# Altium integrated library National Semiconductor Interface.IntLib: 1433 symbols (part 5 of 51)
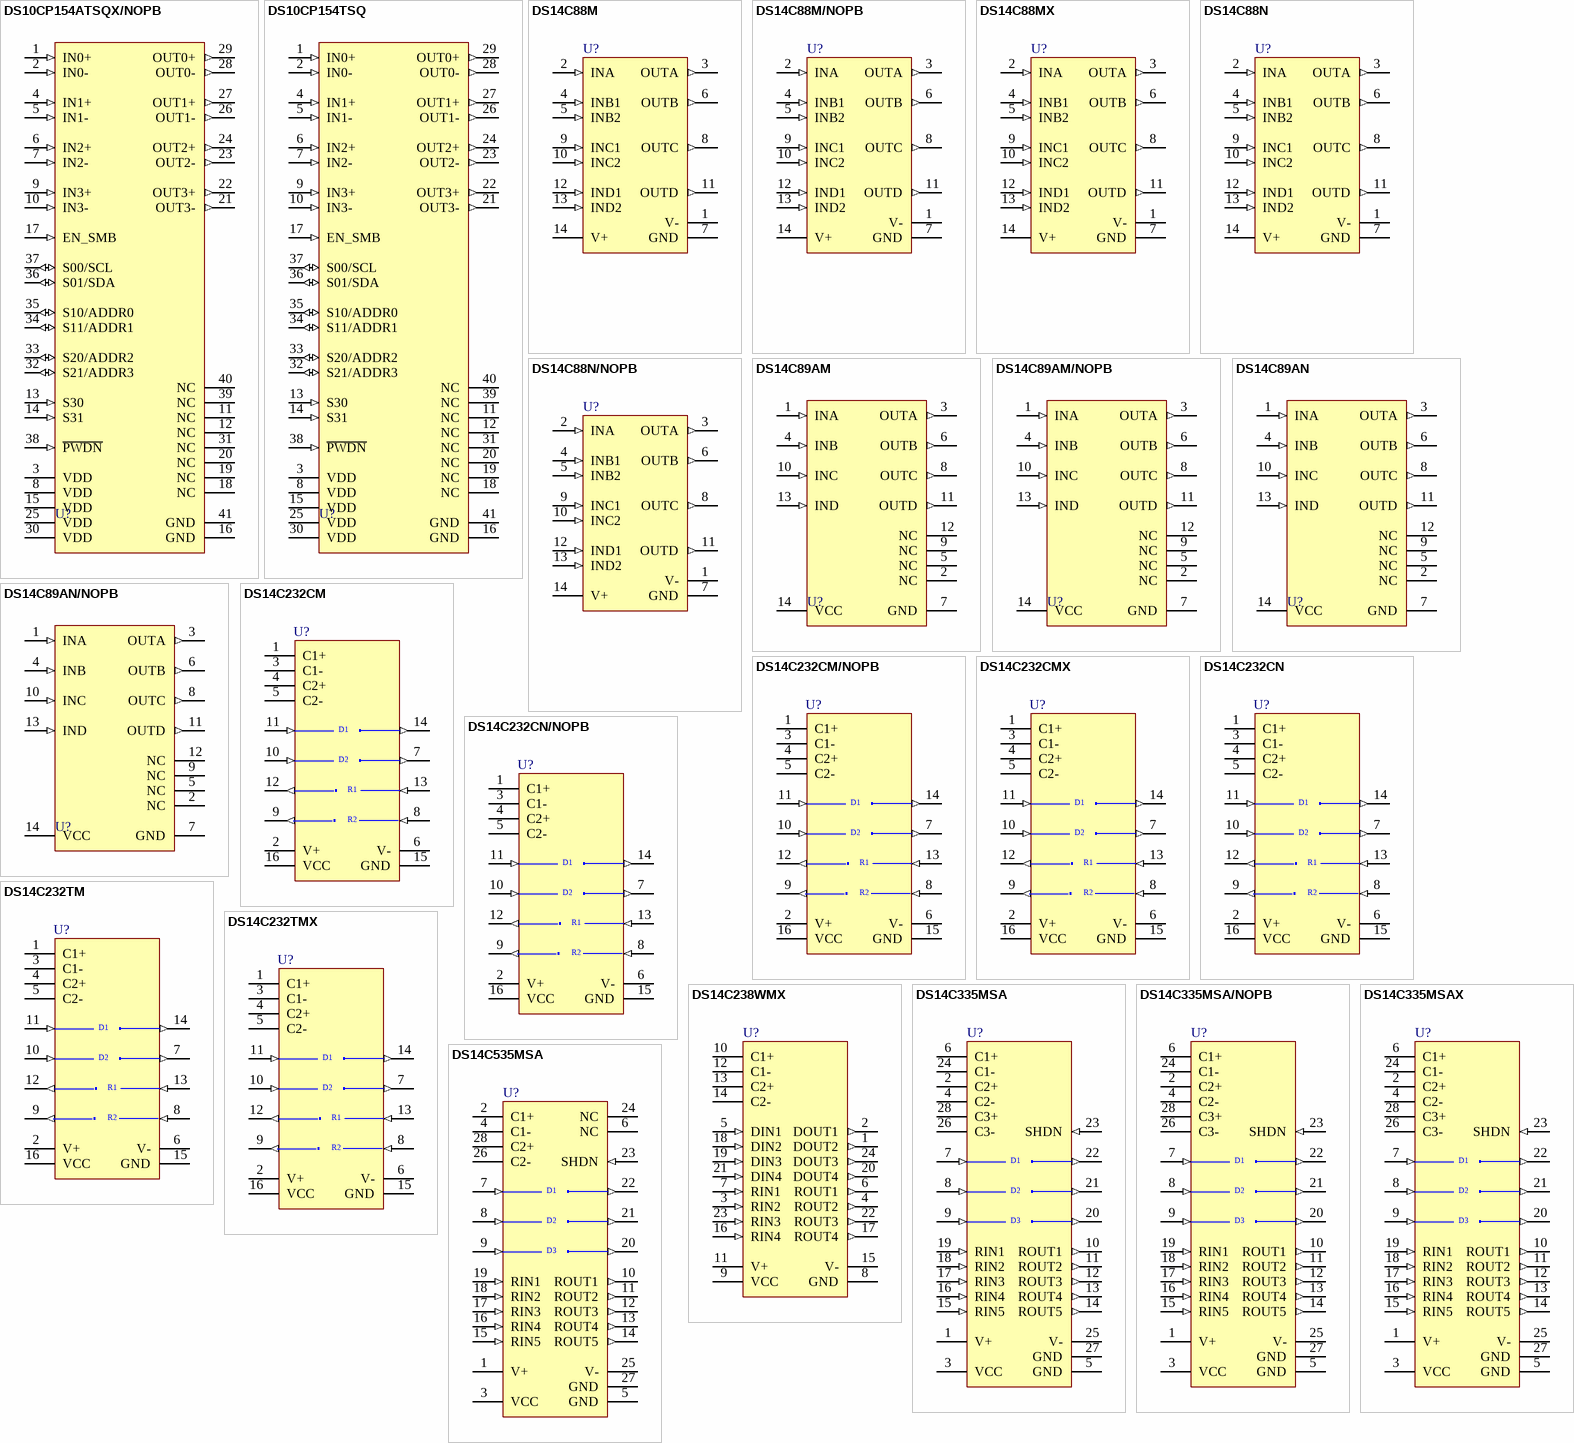
[diagram p128: symbols DS10CP154ATSQX/NOPB to DS14C535MSA]

## DS14C232CM/NOPB
designator U?
Low Power +5V Powered TIA/EIA-232 Dual Driver/Receiver, 16-pin Narrow SOIC, Pb-Free; PartNumber: DS14C232CM/NOPB; Manufacturer: National Semiconductor; PackageTopMarking: NSUZXYTTE#*DS14C232CM; PowerWise: N; CompType: Interface IC; High-Reliability: Y; DatasheetVersion: Oct-1999; PackageVersion: revJ, Aug-1995; PackageReference: M16A; PackageDescription: Molded Package, SO, .150in Wide, 16 Lead; RoHS: Y; PinCount: 16; Code_JEDEC: MS-012-AC; Code_IPC: SOIC127P600-16; ComponentLink1Description: Manufacturer URL; ComponentLink1URL: http://www.national.com/; ComponentLink2Description: DS14C232 Datasheet; ComponentLink2URL: http://www.national.com/ds/DS/DS14C232.pdf; ComponentLink3Description: DS14C232 Web Page; ComponentLink3URL: http://www.national.com/pf/DS/DS14C232.html; ComponentLink4Description: M16A Package Page; ComponentLink4URL: http://www.national.com/packaging/folders/m16a.html
footprint M16A_N (SOIC, 16-Leads, Body 9.9x3.9mm, Pitch 1.27mm, IPC Medium Density)
footprint M16A_L (SOIC, 16-Leads, Body 9.9x3.9mm, Pitch 1.27mm, IPC High Density)
footprint M16A_M (SOIC, 16-Leads, Body 9.9x3.9mm, Pitch 1.27mm, IPC Low Density)
pins: 1 C1+, 2 V+ (power), 3 C1-, 4 C2+, 5 C2-, 6 V- (power), 7 DOUT (out), 8 RIN (in), 9 ROUT (out), 10 DIN (in), 11 DIN (in), 12 ROUT (out), 13 RIN (in), 14 DOUT (out), 15 GND (power), 16 VCC (power)
text: D1; D2; R1; R2

## DS14C232CMX
designator U?
Low Power +5V Powered TIA/EIA-232 Dual Driver/Receiver, 16-pin Narrow SOIC; PartNumber: DS14C232CMX; Manufacturer: National Semiconductor; PackageTopMarking: NSUZXYTTE#*DS14C232CM; PowerWise: N; CompType: Interface IC; High-Reliability: Y; DatasheetVersion: Oct-1999; PackageVersion: revJ, Aug-1995; PackageReference: M16A; PackageDescription: Molded Package, SO, .150in Wide, 16 Lead; RoHS: N; PinCount: 16; Code_JEDEC: MS-012-AC; Code_IPC: SOIC127P600-16; ComponentLink1Description: Manufacturer URL; ComponentLink1URL: http://www.national.com/; ComponentLink2Description: DS14C232 Datasheet; ComponentLink2URL: http://www.national.com/ds/DS/DS14C232.pdf; ComponentLink3Description: DS14C232 Web Page; ComponentLink3URL: http://www.national.com/pf/DS/DS14C232.html; ComponentLink4Description: M16A Package Page; ComponentLink4URL: http://www.national.com/packaging/folders/m16a.html
footprint M16A_N (SOIC, 16-Leads, Body 9.9x3.9mm, Pitch 1.27mm, IPC Medium Density)
footprint M16A_L (SOIC, 16-Leads, Body 9.9x3.9mm, Pitch 1.27mm, IPC High Density)
footprint M16A_M (SOIC, 16-Leads, Body 9.9x3.9mm, Pitch 1.27mm, IPC Low Density)
pins: 1 C1+, 2 V+ (power), 3 C1-, 4 C2+, 5 C2-, 6 V- (power), 7 DOUT (out), 8 RIN (in), 9 ROUT (out), 10 DIN (in), 11 DIN (in), 12 ROUT (out), 13 RIN (in), 14 DOUT (out), 15 GND (power), 16 VCC (power)
text: D1; D2; R1; R2

## DS14C232CN
designator U?
Low-Power +5V Powered TIA/EIA-232 Dual Driver/Receiver, 16-pin MDIP; PartNumber: DS14C232CN; Manufacturer: National Semiconductor; PackageTopMarking: NSUZXYYTTE#*DS14C232CN; PowerWise: N; CompType: Interface IC; High-Reliability: Y; DatasheetVersion: Oct-1999; PackageVersion: revG, May-2006; PackageReference: N16E; PackageDescription: MDIP, .750 x .250 x .130in, 16 Lead, .100in Pitch; RoHS: N; PinCount: 16; Code_JEDEC: MS-001-BB; ComponentLink1Description: Manufacturer URL; ComponentLink1URL: http://www.national.com/; ComponentLink2Description: DS14C232 Datasheet; ComponentLink2URL: http://www.national.com/ds/DS/DS14C232.pdf; ComponentLink3Description: DS14C232 Web Page; ComponentLink3URL: http://www.national.com/pf/DS/DS14C232.html; ComponentLink4Description: N16E Package Page; ComponentLink4URL: http://www.national.com/packaging/folders/n16e.html
footprint N16E (DIP, 16-Leads, Row Spacing 7.62mm, Pitch 2.54mm, Body 19.3x6.35mm)
pins: 1 C1+, 2 V+ (power), 3 C1-, 4 C2+, 5 C2-, 6 V- (power), 7 DOUT (out), 8 RIN (in), 9 ROUT (out), 10 DIN (in), 11 DIN (in), 12 ROUT (out), 13 RIN (in), 14 DOUT (out), 15 GND (power), 16 VCC (power)
text: D1; D2; R1; R2

## DS14C232CN/NOPB
designator U?
Low Power +5V Powered TIA/EIA-232 Dual Driver/Receiver, 16-pin MDIP, Pb-Free; PartNumber: DS14C232CN/NOPB; Manufacturer: National Semiconductor; PackageTopMarking: NSUZXYYTTE#*DS14C232CN; PowerWise: N; CompType: Interface IC; High-Reliability: Y; DatasheetVersion: Oct-1999; PackageVersion: revG, May-2006; PackageReference: N16E; PackageDescription: MDIP, .750 x .250 x .130in, 16 Lead, .100in Pitch; RoHS: Y; PinCount: 16; Code_JEDEC: MS-001-BB; ComponentLink1Description: Manufacturer URL; ComponentLink1URL: http://www.national.com/; ComponentLink2Description: DS14C232 Datasheet; ComponentLink2URL: http://www.national.com/ds/DS/DS14C232.pdf; ComponentLink3Description: DS14C232 Web Page; ComponentLink3URL: http://www.national.com/pf/DS/DS14C232.html; ComponentLink4Description: N16E Package Page; ComponentLink4URL: http://www.national.com/packaging/folders/n16e.html
footprint N16E (DIP, 16-Leads, Row Spacing 7.62mm, Pitch 2.54mm, Body 19.3x6.35mm)
pins: 1 C1+, 2 V+ (power), 3 C1-, 4 C2+, 5 C2-, 6 V- (power), 7 DOUT (out), 8 RIN (in), 9 ROUT (out), 10 DIN (in), 11 DIN (in), 12 ROUT (out), 13 RIN (in), 14 DOUT (out), 15 GND (power), 16 VCC (power)
text: D1; D2; R1; R2

## DS14C232TM
designator U?
Low-Power +5V Powered TIA/EIA-232 Dual Driver/Receiver, 16-pin Narrow SOIC; PartNumber: DS14C232TM; Manufacturer: National Semiconductor; PackageTopMarking: NSUZXYTTE#*DS14C232TM; PowerWise: N; CompType: Interface IC; High-Reliability: Y; DatasheetVersion: Oct-1999; PackageVersion: revJ, Aug-1995; PackageReference: M16A; PackageDescription: Molded Package, SO, .150in Wide, 16 Lead; RoHS: N; PinCount: 16; Code_JEDEC: MS-012-AC; Code_IPC: SOIC127P600-16; ComponentLink1Description: Manufacturer URL; ComponentLink1URL: http://www.national.com/; ComponentLink2Description: DS14C232 Datasheet; ComponentLink2URL: http://www.national.com/ds/DS/DS14C232.pdf; ComponentLink3Description: DS14C232 Web Page; ComponentLink3URL: http://www.national.com/pf/DS/DS14C232.html; ComponentLink4Description: M16A Package Page; ComponentLink4URL: http://www.national.com/packaging/folders/m16a.html
footprint M16A_N (SOIC, 16-Leads, Body 9.9x3.9mm, Pitch 1.27mm, IPC Medium Density)
footprint M16A_L (SOIC, 16-Leads, Body 9.9x3.9mm, Pitch 1.27mm, IPC High Density)
footprint M16A_M (SOIC, 16-Leads, Body 9.9x3.9mm, Pitch 1.27mm, IPC Low Density)
pins: 1 C1+, 2 V+ (power), 3 C1-, 4 C2+, 5 C2-, 6 V- (power), 7 DOUT (out), 8 RIN (in), 9 ROUT (out), 10 DIN (in), 11 DIN (in), 12 ROUT (out), 13 RIN (in), 14 DOUT (out), 15 GND (power), 16 VCC (power)
text: D1; D2; R1; R2

## DS14C232TMX
designator U?
Low Power +5V Powered TIA/EIA-232 Dual Driver/Receiver, 16-pin Narrow SOIC; PartNumber: DS14C232TMX; Manufacturer: National Semiconductor; PackageTopMarking: NSUZXYTTE#*DS14C232TM; PowerWise: N; CompType: Interface IC; High-Reliability: Y; DatasheetVersion: Oct-1999; PackageVersion: revJ, Aug-1995; PackageReference: M16A; PackageDescription: Molded Package, SO, .150in Wide, 16 Lead; RoHS: N; PinCount: 16; Code_JEDEC: MS-012-AC; Code_IPC: SOIC127P600-16; ComponentLink1Description: Manufacturer URL; ComponentLink1URL: http://www.national.com/; ComponentLink2Description: DS14C232 Datasheet; ComponentLink2URL: http://www.national.com/ds/DS/DS14C232.pdf; ComponentLink3Description: DS14C232 Web Page; ComponentLink3URL: http://www.national.com/pf/DS/DS14C232.html; ComponentLink4Description: M16A Package Page; ComponentLink4URL: http://www.national.com/packaging/folders/m16a.html
footprint M16A_N (SOIC, 16-Leads, Body 9.9x3.9mm, Pitch 1.27mm, IPC Medium Density)
footprint M16A_L (SOIC, 16-Leads, Body 9.9x3.9mm, Pitch 1.27mm, IPC High Density)
footprint M16A_M (SOIC, 16-Leads, Body 9.9x3.9mm, Pitch 1.27mm, IPC Low Density)
pins: 1 C1+, 2 V+ (power), 3 C1-, 4 C2+, 5 C2-, 6 V- (power), 7 DOUT (out), 8 RIN (in), 9 ROUT (out), 10 DIN (in), 11 DIN (in), 12 ROUT (out), 13 RIN (in), 14 DOUT (out), 15 GND (power), 16 VCC (power)
text: D1; D2; R1; R2

## DS14C238WMX
designator U?
Single Supply TIA/EIA-232 4x4 Driver/Receiver, 24-pin Wide SOIC; PartNumber: DS14C238WMX; Manufacturer: National Semiconductor; PackageTopMarking: NSUZXYTT*DS14C238WM; PowerWise: N; CompType: Interface IC; High-Reliability: Y; DatasheetVersion: Jul-2002; PackageVersion: revF, Apr-1990; PackageReference: M24B; PackageDescription: Molded Package, S.O., .300in Wide, 24 Lead; RoHS: N; PinCount: 24; ComponentLink1Description: Manufacturer URL; ComponentLink1URL: http://www.national.com/; ComponentLink2Description: DS14C238 Datasheet; ComponentLink2URL: http://www.national.com/ds/DS/DS14C238.pdf; ComponentLink3Description: DS14C238 Web Page; ComponentLink3URL: http://www.national.com/pf/DS/DS14C238.html; ComponentLink4Description: M24B Package Page; ComponentLink4URL: http://www.national.com/packaging/folders/m24b.html
footprint M24B_N (SOIC, 24-Leads, Body 15.4x7.5mm, Pitch 1.27mm, IPC Medium Density)
footprint M24B_L (SOIC, 24-Leads, Body 15.4x7.5mm, Pitch 1.27mm, IPC High Density)
footprint M24B_M (SOIC, 24-Leads, Body 15.4x7.5mm, Pitch 1.27mm, IPC Low Density)
pins: 1 DOUT2 (out), 2 DOUT1 (out), 3 RIN2 (in), 4 ROUT2 (out), 5 DIN1 (in), 6 ROUT1 (out), 7 RIN1 (in), 8 GND (power), 9 VCC (power), 10 C1+, 11 V+ (power), 12 C1-, 13 C2+, 14 C2-, 15 V- (power), 16 RIN4 (in), 17 ROUT4 (out), 18 DIN2 (in), 19 DIN3 (in), 20 DOUT4 (out), 21 DIN4 (in), 22 ROUT3 (out), 23 RIN3 (in), 24 DOUT3 (out)

## DS14C335MSA
designator U?
+3.3V Supply TIA/EIA-232 3x5 Driver/Receiver, 28-pin SSOP-EIAJ; PartNumber: DS14C335MSA; Manufacturer: National Semiconductor; PackageTopMarking: NSUZXYTTE#*DS14C335*MSA; PowerWise: N; CompType: Interface IC; High-Reliability: Y; DatasheetVersion: Mar-2000; PackageVersion: revC, Oct-2009; PackageReference: MSA28; PackageDescription: Molded SSOP, 5.3mm Body Width, 0.65mm Pitch, EIAJ, Type II, 28 Lead; RoHS: N; PinCount: 28; ComponentLink1Description: Manufacturer URL; ComponentLink1URL: http://www.national.com/; ComponentLink2Description: DS14C335 Datasheet; ComponentLink2URL: http://www.national.com/ds/DS/DS14C335.pdf; ComponentLink3Description: DS14C335 Web Page; ComponentLink3URL: http://www.national.com/pf/DS/DS14C335.html; ComponentLink4Description: MSA28 Package Page; ComponentLink4URL: http://www.national.com/packaging/folders/msa28.html
footprint MSA28_N (SOP, 28-Leads, Body 10.2x5.3mm, Pitch 0.65mm, IPC Medium Density)
footprint MSA28_L (SOP, 28-Leads, Body 10.2x5.3mm, Pitch 0.65mm, IPC High Density)
footprint MSA28_M (SOP, 28-Leads, Body 10.2x5.3mm, Pitch 0.65mm, IPC Low Density)
pins: 1 V+ (power), 2 C2+, 3 VCC (power), 4 C2-, 5 GND (power), 6 C1+, 7 DIN (in), 8 DIN (in), 9 DIN (in), 10 ROUT1 (out), 11 ROUT2 (out), 12 ROUT3 (out), 13 ROUT4 (out), 14 ROUT5 (out), 15 RIN5 (in), 16 RIN4 (in), 17 RIN3 (in), 18 RIN2 (in), 19 RIN1 (in), 20 DOUT (out), 21 DOUT (out), 22 DOUT (out), 23 SHDN (in), 24 C1-, 25 V- (power), 26 C3-, 27 GND (power), 28 C3+
text: D1; D2; D3

## DS14C335MSA/NOPB
designator U?
+3.3V Supply TIA/EIA - 232 3X5 Driver/Receiver, 28-pin SSOP-EIAJ, Pb-Free; PartNumber: DS14C335MSA/NOPB; Manufacturer: National Semiconductor; PackageTopMarking: NSUZXYTTE#*DS14C335*MSA; PowerWise: N; CompType: Interface IC; High-Reliability: Y; DatasheetVersion: Mar-2000; PackageVersion: revC, Oct-2009; PackageReference: MSA28; PackageDescription: Molded SSOP, 5.3mm Body Width, 0.65mm Pitch, EIAJ, Type II, 28 Lead; RoHS: Y; PinCount: 28; ComponentLink1Description: Manufacturer URL; ComponentLink1URL: http://www.national.com/; ComponentLink2Description: DS14C335 Datasheet; ComponentLink2URL: http://www.national.com/ds/DS/DS14C335.pdf; ComponentLink3Description: DS14C335 Web Page; ComponentLink3URL: http://www.national.com/pf/DS/DS14C335.html; ComponentLink4Description: MSA28 Package Page; ComponentLink4URL: http://www.national.com/packaging/folders/msa28.html
footprint MSA28_N (SOP, 28-Leads, Body 10.2x5.3mm, Pitch 0.65mm, IPC Medium Density)
footprint MSA28_L (SOP, 28-Leads, Body 10.2x5.3mm, Pitch 0.65mm, IPC High Density)
footprint MSA28_M (SOP, 28-Leads, Body 10.2x5.3mm, Pitch 0.65mm, IPC Low Density)
pins: 1 V+ (power), 2 C2+, 3 VCC (power), 4 C2-, 5 GND (power), 6 C1+, 7 DIN (in), 8 DIN (in), 9 DIN (in), 10 ROUT1 (out), 11 ROUT2 (out), 12 ROUT3 (out), 13 ROUT4 (out), 14 ROUT5 (out), 15 RIN5 (in), 16 RIN4 (in), 17 RIN3 (in), 18 RIN2 (in), 19 RIN1 (in), 20 DOUT (out), 21 DOUT (out), 22 DOUT (out), 23 SHDN (in), 24 C1-, 25 V- (power), 26 C3-, 27 GND (power), 28 C3+
text: D1; D2; D3

## DS14C335MSAX
designator U?
+3.3V Supply TIA/EIA - 232 3X5 Driver/Receiver, 28-pin SSOP-EIAJ; PartNumber: DS14C335MSAX; Manufacturer: National Semiconductor; PackageTopMarking: NSUZXYTTE#*DS14C335*MSA; PowerWise: N; CompType: Interface IC; High-Reliability: Y; DatasheetVersion: Mar-2000; PackageVersion: revC, Oct-2009; PackageReference: MSA28; PackageDescription: Molded SSOP, 5.3mm Body Width, 0.65mm Pitch, EIAJ, Type II, 28 Lead; RoHS: N; PinCount: 28; ComponentLink1Description: Manufacturer URL; ComponentLink1URL: http://www.national.com/; ComponentLink2Description: DS14C335 Datasheet; ComponentLink2URL: http://www.national.com/ds/DS/DS14C335.pdf; ComponentLink3Description: DS14C335 Web Page; ComponentLink3URL: http://www.national.com/pf/DS/DS14C335.html; ComponentLink4Description: MSA28 Package Page; ComponentLink4URL: http://www.national.com/packaging/folders/msa28.html
footprint MSA28_N (SOP, 28-Leads, Body 10.2x5.3mm, Pitch 0.65mm, IPC Medium Density)
footprint MSA28_L (SOP, 28-Leads, Body 10.2x5.3mm, Pitch 0.65mm, IPC High Density)
footprint MSA28_M (SOP, 28-Leads, Body 10.2x5.3mm, Pitch 0.65mm, IPC Low Density)
pins: 1 V+ (power), 2 C2+, 3 VCC (power), 4 C2-, 5 GND (power), 6 C1+, 7 DIN (in), 8 DIN (in), 9 DIN (in), 10 ROUT1 (out), 11 ROUT2 (out), 12 ROUT3 (out), 13 ROUT4 (out), 14 ROUT5 (out), 15 RIN5 (in), 16 RIN4 (in), 17 RIN3 (in), 18 RIN2 (in), 19 RIN1 (in), 20 DOUT (out), 21 DOUT (out), 22 DOUT (out), 23 SHDN (in), 24 C1-, 25 V- (power), 26 C3-, 27 GND (power), 28 C3+
text: D1; D2; D3

## DS14C535MSA
designator U?
+5V Supply EIA/TIA-232 3x5 Driver/Receiver, 28-pin SSOP-EIAJ; PartNumber: DS14C535MSA; Manufacturer: National Semiconductor; PackageTopMarking: NSUZXYTTE#*DS14C535*MSA; PowerWise: N; CompType: Interface IC; High-Reliability: Y; DatasheetVersion: May-1998; PackageVersion: revC, Oct-2009; PackageReference: MSA28; PackageDescription: Molded SSOP, 5.3mm Body Width, 0.65mm Pitch, EIAJ, Type II, 28 Lead; RoHS: N; PinCount: 28; ComponentLink1Description: Manufacturer URL; ComponentLink1URL: http://www.national.com/; ComponentLink2Description: DS14C535 Datasheet; ComponentLink2URL: http://www.national.com/ds/DS/DS14C535.pdf; ComponentLink3Description: DS14C535 Web Page; ComponentLink3URL: http://www.national.com/pf/DS/DS14C535.html; ComponentLink4Description: MSA28 Package Page; ComponentLink4URL: http://www.national.com/packaging/folders/msa28.html
footprint MSA28_N (SOP, 28-Leads, Body 10.2x5.3mm, Pitch 0.65mm, IPC Medium Density)
footprint MSA28_L (SOP, 28-Leads, Body 10.2x5.3mm, Pitch 0.65mm, IPC High Density)
footprint MSA28_M (SOP, 28-Leads, Body 10.2x5.3mm, Pitch 0.65mm, IPC Low Density)
pins: 1 V+ (power), 2 C1+, 3 VCC (power), 4 C1-, 5 GND (power), 6 NC, 7 DIN (in), 8 DIN (in), 9 DIN (in), 10 ROUT1 (out), 11 ROUT2 (out), 12 ROUT3 (out), 13 ROUT4 (out), 14 ROUT5 (out), 15 RIN5 (in), 16 RIN4 (in), 17 RIN3 (in), 18 RIN2 (in), 19 RIN1 (in), 20 DOUT (out), 21 DOUT (out), 22 DOUT (out), 23 SHDN (in), 24 NC, 25 V- (power), 26 C2-, 27 GND (power), 28 C2+
text: D1; D2; D3

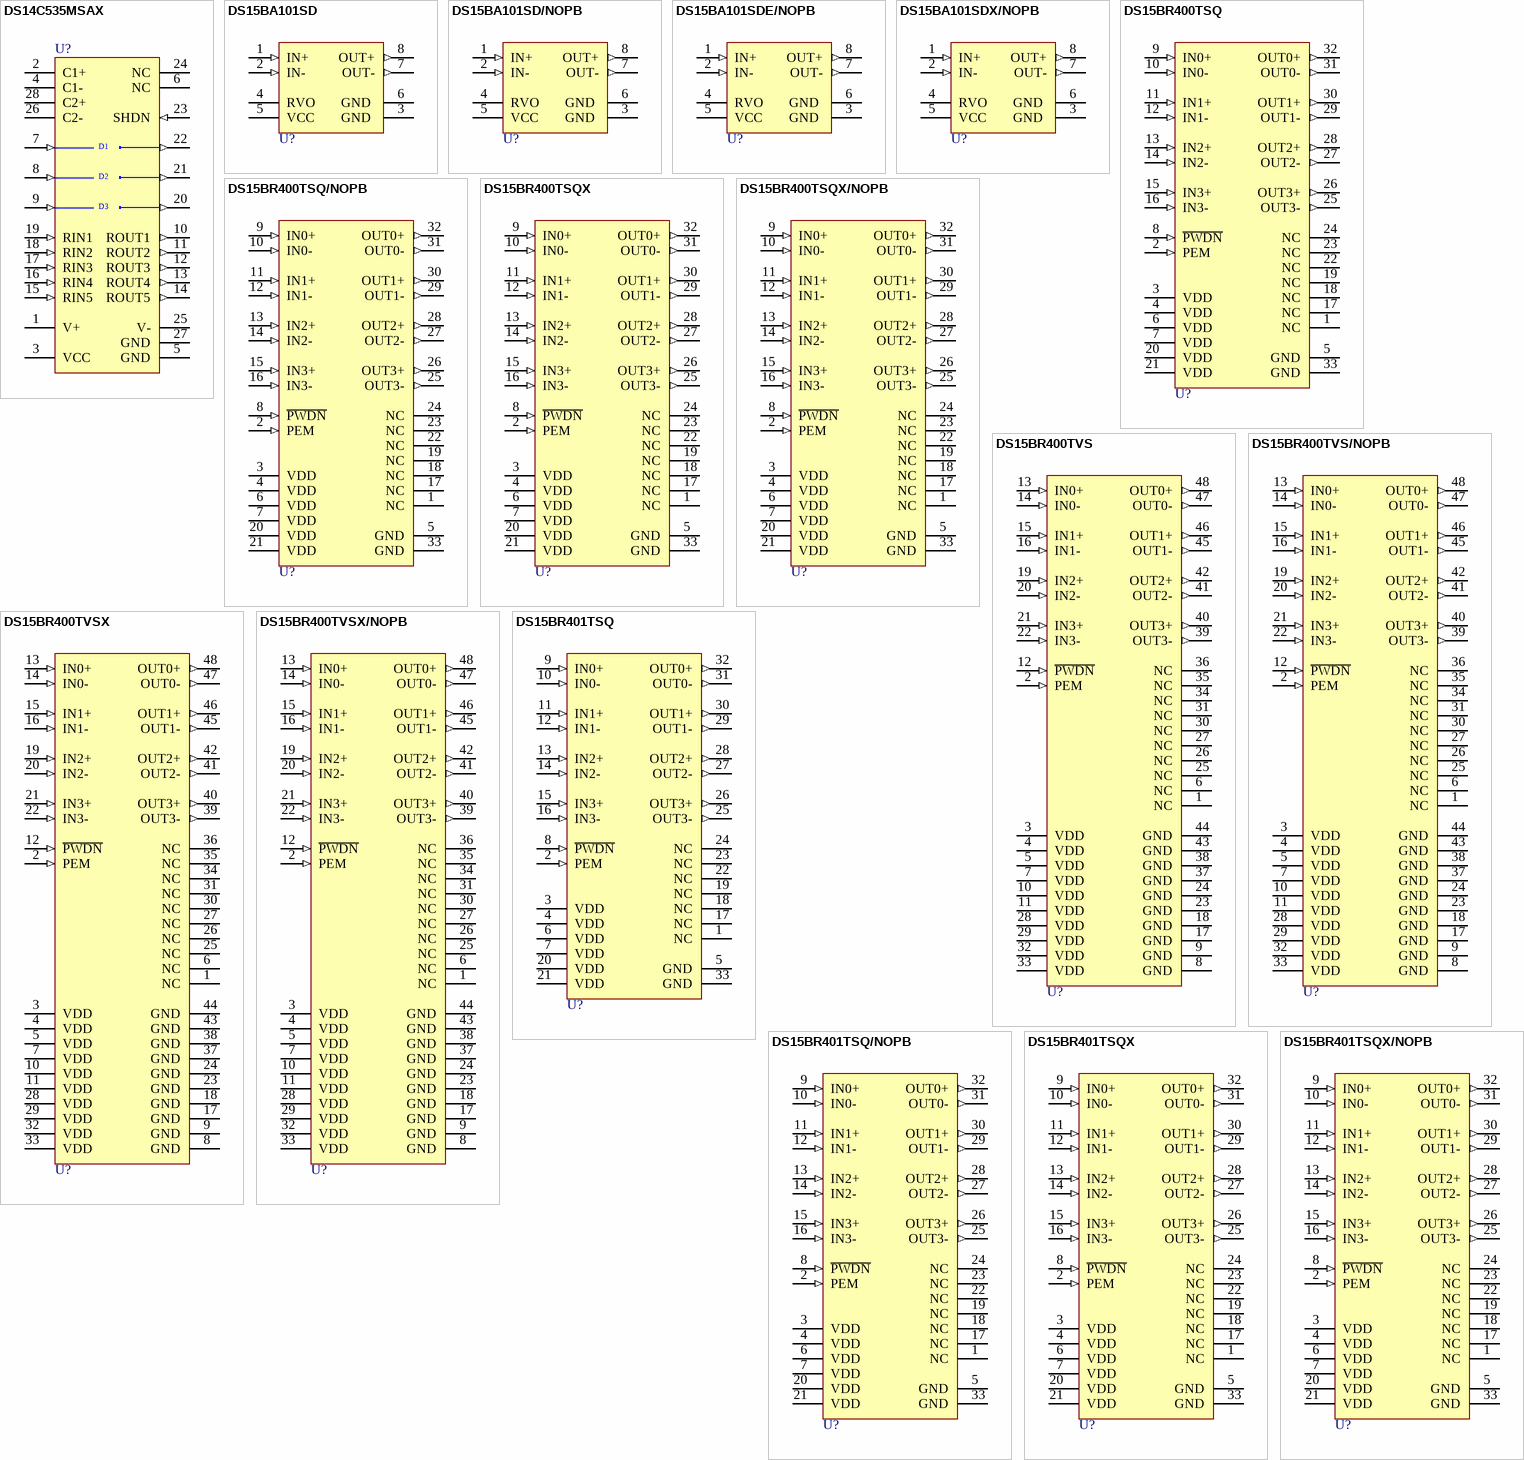
[diagram p16: symbols DS14C535MSAX to DS15BR401TSQX/NOPB]

## DS14C535MSAX
designator U?
+5V Supply EIA/TIA-232 3 x 5 Driver Receiver, 28-pin SSOP-EIAJ; PartNumber: DS14C535MSAX; Manufacturer: National Semiconductor; PackageTopMarking: NSUZXYTTE#*DS14C535*MSA; PowerWise: N; CompType: Interface IC; High-Reliability: Y; DatasheetVersion: May-1998; PackageVersion: revC, Oct-2009; PackageReference: MSA28; PackageDescription: Molded SSOP, 5.3mm Body Width, 0.65mm Pitch, EIAJ, Type II, 28 Lead; RoHS: N; PinCount: 28; ComponentLink1Description: Manufacturer URL; ComponentLink1URL: http://www.national.com/; ComponentLink2Description: DS14C535 Datasheet; ComponentLink2URL: http://www.national.com/ds/DS/DS14C535.pdf; ComponentLink3Description: DS14C535 Web Page; ComponentLink3URL: http://www.national.com/pf/DS/DS14C535.html; ComponentLink4Description: MSA28 Package Page; ComponentLink4URL: http://www.national.com/packaging/folders/msa28.html
footprint MSA28_N (SOP, 28-Leads, Body 10.2x5.3mm, Pitch 0.65mm, IPC Medium Density)
footprint MSA28_L (SOP, 28-Leads, Body 10.2x5.3mm, Pitch 0.65mm, IPC High Density)
footprint MSA28_M (SOP, 28-Leads, Body 10.2x5.3mm, Pitch 0.65mm, IPC Low Density)
pins: 1 V+ (power), 2 C1+, 3 VCC (power), 4 C1-, 5 GND (power), 6 NC, 7 DIN (in), 8 DIN (in), 9 DIN (in), 10 ROUT1 (out), 11 ROUT2 (out), 12 ROUT3 (out), 13 ROUT4 (out), 14 ROUT5 (out), 15 RIN5 (in), 16 RIN4 (in), 17 RIN3 (in), 18 RIN2 (in), 19 RIN1 (in), 20 DOUT (out), 21 DOUT (out), 22 DOUT (out), 23 SHDN (in), 24 NC, 25 V- (power), 26 C2-, 27 GND (power), 28 C2+
text: D1; D2; D3

## DS15BA101SD
designator U?
1.5 Gbps Differential Buffer with Adjustable Output Voltage, 8-pin LLP; PartNumber: DS15BA101SD; Manufacturer: National Semiconductor; PackageTopMarking: ZXYTT*BA101; PowerWise: N; CompType: Interface IC; High-Reliability: Y; DatasheetVersion: Jan-2009; PackageVersion: revA, Aug-2003; PackageReference: SDA08A; PackageDescription: LLP, Plastic, Dual, 3 x 3 x 0.8mm Body, 8 Lead, 0.5mm Pitch, No Pullback; RoHS: Y; PinCount: 8; ComponentLink1Description: Manufacturer URL; ComponentLink1URL: http://www.national.com/; ComponentLink2Description: DS15BA101 Datasheet; ComponentLink2URL: http://www.national.com/ds/DS/DS15BA101.pdf; ComponentLink3Description: DS15BA101 Web Page; ComponentLink3URL: http://www.national.com/pf/DS/DS15BA101.html; ComponentLink4Description: SDA08A Package Page; ComponentLink4URL: http://www.national.com/packaging/folders/sda08a.html
footprint SDA08A (SON, 8-Leads, Body 3x3mm, Pitch 0.5mm, NSC Recommended)
pins: 1 IN+ (in), 2 IN- (in), 3 GND  (power), 4 RVO, 5 VCC (power), 6 GND  (power), 7 OUT- (out), 8 OUT+ (out)

## DS15BA101SD/NOPB
designator U?
1.5 Gbps Differential Buffer with Adjustable Output Voltage, 8-pin LLP, Pb-Free; PartNumber: DS15BA101SD/NOPB; Manufacturer: National Semiconductor; PackageTopMarking: ZXYTT*BA101; PowerWise: N; CompType: Interface IC; High-Reliability: Y; DatasheetVersion: Jan-2009; PackageVersion: revA, Aug-2003; PackageReference: SDA08A; PackageDescription: LLP, Plastic, Dual, 3 x 3 x 0.8mm Body, 8 Lead, 0.5mm Pitch, No Pullback; RoHS: Y; PinCount: 8; ComponentLink1Description: Manufacturer URL; ComponentLink1URL: http://www.national.com/; ComponentLink2Description: DS15BA101 Datasheet; ComponentLink2URL: http://www.national.com/ds/DS/DS15BA101.pdf; ComponentLink3Description: DS15BA101 Web Page; ComponentLink3URL: http://www.national.com/pf/DS/DS15BA101.html; ComponentLink4Description: SDA08A Package Page; ComponentLink4URL: http://www.national.com/packaging/folders/sda08a.html
footprint SDA08A (SON, 8-Leads, Body 3x3mm, Pitch 0.5mm, NSC Recommended)
pins: 1 IN+ (in), 2 IN- (in), 3 GND  (power), 4 RVO, 5 VCC (power), 6 GND  (power), 7 OUT- (out), 8 OUT+ (out)

## DS15BA101SDE/NOPB
designator U?
1.5 Gbps Differential Buffer with Adjustable Output Voltage, 8-pin LLP, Pb-Free; PartNumber: DS15BA101SDE/NOPB; Manufacturer: National Semiconductor; PackageTopMarking: ZXYTT*BA101; PowerWise: N; CompType: Interface IC; High-Reliability: Y; DatasheetVersion: Jan-2009; PackageVersion: revA, Aug-2003; PackageReference: SDA08A; PackageDescription: LLP, Plastic, Dual, 3 x 3 x 0.8mm Body, 8 Lead, 0.5mm Pitch, No Pullback; RoHS: Y; PinCount: 8; ComponentLink1Description: Manufacturer URL; ComponentLink1URL: http://www.national.com/; ComponentLink2Description: DS15BA101 Datasheet; ComponentLink2URL: http://www.national.com/ds/DS/DS15BA101.pdf; ComponentLink3Description: DS15BA101 Web Page; ComponentLink3URL: http://www.national.com/pf/DS/DS15BA101.html; ComponentLink4Description: SDA08A Package Page; ComponentLink4URL: http://www.national.com/packaging/folders/sda08a.html
footprint SDA08A (SON, 8-Leads, Body 3x3mm, Pitch 0.5mm, NSC Recommended)
pins: 1 IN+ (in), 2 IN- (in), 3 GND  (power), 4 RVO, 5 VCC (power), 6 GND  (power), 7 OUT- (out), 8 OUT+ (out)

## DS15BA101SDX/NOPB
designator U?
1.5 Gbps Differential Buffer with Adjustable Output Voltage, 8-pin LLP, Pb-Free; PartNumber: DS15BA101SDX/NOPB; Manufacturer: National Semiconductor; PackageTopMarking: ZXYTT*BA101; PowerWise: N; CompType: Interface IC; High-Reliability: Y; DatasheetVersion: Jan-2009; PackageVersion: revA, Aug-2003; PackageReference: SDA08A; PackageDescription: LLP, Plastic, Dual, 3 x 3 x 0.8mm Body, 8 Lead, 0.5mm Pitch, No Pullback; RoHS: Y; PinCount: 8; ComponentLink1Description: Manufacturer URL; ComponentLink1URL: http://www.national.com/; ComponentLink2Description: DS15BA101 Datasheet; ComponentLink2URL: http://www.national.com/ds/DS/DS15BA101.pdf; ComponentLink3Description: DS15BA101 Web Page; ComponentLink3URL: http://www.national.com/pf/DS/DS15BA101.html; ComponentLink4Description: SDA08A Package Page; ComponentLink4URL: http://www.national.com/packaging/folders/sda08a.html
footprint SDA08A (SON, 8-Leads, Body 3x3mm, Pitch 0.5mm, NSC Recommended)
pins: 1 IN+ (in), 2 IN- (in), 3 GND  (power), 4 RVO, 5 VCC (power), 6 GND  (power), 7 OUT- (out), 8 OUT+ (out)

## DS15BR400TSQ
designator U?
Four-Channel LVDS Repeaters with Pre-Emphasis, 32-pin LLP; PartNumber: DS15BR400TSQ; Manufacturer: National Semiconductor; PackageTopMarking: NS*UZXYTT*5R400SQ; PowerWise: N; CompType: Interface IC; High-Reliability: Y; DatasheetVersion: May-2007; PackageVersion: revB, Oct-2009; PackageReference: SQA32A; PackageDescription: LLP, Quad, 5 x 5 x 0.8mm, 32 Lead, 0.5mm Pitch, No Pullback 3.1 x 3.1 Exposed Pad; RoHS: N; PinCount: 32; ComponentLink1Description: Manufacturer URL; ComponentLink1URL: http://www.national.com/; ComponentLink2Description: DS15BR400 Datasheet; ComponentLink2URL: http://www.national.com/ds/DS/DS15BR400.pdf; ComponentLink3Description: DS15BR400 Web Page; ComponentLink3URL: http://www.national.com/pf/DS/DS15BR400.html; ComponentLink4Description: SQA32A Package Page; ComponentLink4URL: http://www.national.com/packaging/folders/sqa32a.html
footprint SQA32A (QFN, 32-Leads, Body 5x5mm, Pitch 0.5mm, Thermal Pad 3.2x3.2mm, NSC Recommended)
pins: 1 NC, 2 PEM (in), 3 VDD (power), 4 VDD (power), 5 GND (power), 6 VDD (power), 7 VDD (power), 8 ~{PWDN} (in), 9 IN0+ (in), 10 IN0- (in), 11 IN1+ (in), 12 IN1- (in), 13 IN2+ (in), 14 IN2- (in), 15 IN3+ (in), 16 IN3- (in), 17 NC, 18 NC, 19 NC, 20 VDD (power), 21 VDD (power), 22 NC, 23 NC, 24 NC, 25 OUT3- (out), 26 OUT3+ (out), 27 OUT2- (out), 28 OUT2+ (out), 29 OUT1- (out), 30 OUT1+ (out), 31 OUT0- (out), 32 OUT0+ (out), 33 GND (power)

## DS15BR400TSQ/NOPB
designator U?
Four-Channel LVDS Repeaters with Pre-Emphasis, 32-pin LLP, Pb-Free; PartNumber: DS15BR400TSQ/NOPB; Manufacturer: National Semiconductor; PackageTopMarking: NS*UZXYTT*5R400SQ; PowerWise: N; CompType: Interface IC; High-Reliability: Y; DatasheetVersion: May-2007; PackageVersion: revB, Oct-2009; PackageReference: SQA32A; PackageDescription: LLP, Quad, 5 x 5 x 0.8mm, 32 Lead, 0.5mm Pitch, No Pullback 3.1 x 3.1 Exposed Pad; RoHS: Y; PinCount: 32; ComponentLink1Description: Manufacturer URL; ComponentLink1URL: http://www.national.com/; ComponentLink2Description: DS15BR400 Datasheet; ComponentLink2URL: http://www.national.com/ds/DS/DS15BR400.pdf; ComponentLink3Description: DS15BR400 Web Page; ComponentLink3URL: http://www.national.com/pf/DS/DS15BR400.html; ComponentLink4Description: SQA32A Package Page; ComponentLink4URL: http://www.national.com/packaging/folders/sqa32a.html
footprint SQA32A (QFN, 32-Leads, Body 5x5mm, Pitch 0.5mm, Thermal Pad 3.2x3.2mm, NSC Recommended)
pins: 1 NC, 2 PEM (in), 3 VDD (power), 4 VDD (power), 5 GND (power), 6 VDD (power), 7 VDD (power), 8 ~{PWDN} (in), 9 IN0+ (in), 10 IN0- (in), 11 IN1+ (in), 12 IN1- (in), 13 IN2+ (in), 14 IN2- (in), 15 IN3+ (in), 16 IN3- (in), 17 NC, 18 NC, 19 NC, 20 VDD (power), 21 VDD (power), 22 NC, 23 NC, 24 NC, 25 OUT3- (out), 26 OUT3+ (out), 27 OUT2- (out), 28 OUT2+ (out), 29 OUT1- (out), 30 OUT1+ (out), 31 OUT0- (out), 32 OUT0+ (out), 33 GND (power)

## DS15BR400TSQX
designator U?
Four-Channel LVDS Repeaters with Pre-Emphasis, 32-pin LLP; PartNumber: DS15BR400TSQX; Manufacturer: National Semiconductor; PackageTopMarking: NS*UZXYTT*5R400SQ; PowerWise: N; CompType: Interface IC; High-Reliability: Y; DatasheetVersion: May-2007; PackageVersion: revB, Oct-2009; PackageReference: SQA32A; PackageDescription: LLP, Quad, 5 x 5 x 0.8mm, 32 Lead, 0.5mm Pitch, No Pullback 3.1 x 3.1 Exposed Pad; RoHS: N; PinCount: 32; ComponentLink1Description: Manufacturer URL; ComponentLink1URL: http://www.national.com/; ComponentLink2Description: DS15BR400 Datasheet; ComponentLink2URL: http://www.national.com/ds/DS/DS15BR400.pdf; ComponentLink3Description: DS15BR400 Web Page; ComponentLink3URL: http://www.national.com/pf/DS/DS15BR400.html; ComponentLink4Description: SQA32A Package Page; ComponentLink4URL: http://www.national.com/packaging/folders/sqa32a.html
footprint SQA32A (QFN, 32-Leads, Body 5x5mm, Pitch 0.5mm, Thermal Pad 3.2x3.2mm, NSC Recommended)
pins: 1 NC, 2 PEM (in), 3 VDD (power), 4 VDD (power), 5 GND (power), 6 VDD (power), 7 VDD (power), 8 ~{PWDN} (in), 9 IN0+ (in), 10 IN0- (in), 11 IN1+ (in), 12 IN1- (in), 13 IN2+ (in), 14 IN2- (in), 15 IN3+ (in), 16 IN3- (in), 17 NC, 18 NC, 19 NC, 20 VDD (power), 21 VDD (power), 22 NC, 23 NC, 24 NC, 25 OUT3- (out), 26 OUT3+ (out), 27 OUT2- (out), 28 OUT2+ (out), 29 OUT1- (out), 30 OUT1+ (out), 31 OUT0- (out), 32 OUT0+ (out), 33 GND (power)

## DS15BR400TSQX/NOPB
designator U?
Four-Channel LVDS Repeaters with Pre-Emphasis, 32-pin LLP, Pb-Free; PartNumber: DS15BR400TSQX/NOPB; Manufacturer: National Semiconductor; PackageTopMarking: NS*UZXYTT*5R400SQ; PowerWise: N; CompType: Interface IC; High-Reliability: Y; DatasheetVersion: May-2007; PackageVersion: revB, Oct-2009; PackageReference: SQA32A; PackageDescription: LLP, Quad, 5 x 5 x 0.8mm, 32 Lead, 0.5mm Pitch, No Pullback 3.1 x 3.1 Exposed Pad; RoHS: Y; PinCount: 32; ComponentLink1Description: Manufacturer URL; ComponentLink1URL: http://www.national.com/; ComponentLink2Description: DS15BR400 Datasheet; ComponentLink2URL: http://www.national.com/ds/DS/DS15BR400.pdf; ComponentLink3Description: DS15BR400 Web Page; ComponentLink3URL: http://www.national.com/pf/DS/DS15BR400.html; ComponentLink4Description: SQA32A Package Page; ComponentLink4URL: http://www.national.com/packaging/folders/sqa32a.html
footprint SQA32A (QFN, 32-Leads, Body 5x5mm, Pitch 0.5mm, Thermal Pad 3.2x3.2mm, NSC Recommended)
pins: 1 NC, 2 PEM (in), 3 VDD (power), 4 VDD (power), 5 GND (power), 6 VDD (power), 7 VDD (power), 8 ~{PWDN} (in), 9 IN0+ (in), 10 IN0- (in), 11 IN1+ (in), 12 IN1- (in), 13 IN2+ (in), 14 IN2- (in), 15 IN3+ (in), 16 IN3- (in), 17 NC, 18 NC, 19 NC, 20 VDD (power), 21 VDD (power), 22 NC, 23 NC, 24 NC, 25 OUT3- (out), 26 OUT3+ (out), 27 OUT2- (out), 28 OUT2+ (out), 29 OUT1- (out), 30 OUT1+ (out), 31 OUT0- (out), 32 OUT0+ (out), 33 GND (power)

## DS15BR400TVS
designator U?
Four-Channel LVDS Repeaters with Pre-Emphasis, 48-pin TQFP; PartNumber: DS15BR400TVS; Manufacturer: National Semiconductor; PackageTopMarking: NSUZXYTT*DS15BR*400TVS; PowerWise: N; CompType: Interface IC; High-Reliability: Y; DatasheetVersion: May-2007; PackageVersion: revA, Apr-2000; PackageReference: VBC48A; PackageDescription: TQFP, Jedec Metric, 7 x 7 x 1mm, 48 Lead, 0.5mm Pitch; RoHS: N; PinCount: 48; Code_JEDEC: MS-026-ABC; ComponentLink1Description: Manufacturer URL; ComponentLink1URL: http://www.national.com/; ComponentLink2Description: DS15BR400 Datasheet; ComponentLink2URL: http://www.national.com/ds/DS/DS15BR400.pdf; ComponentLink3Description: DS15BR400 Web Page; ComponentLink3URL: http://www.national.com/pf/DS/DS15BR400.html; ComponentLink4Description: VBC48A Package Page; ComponentLink4URL: http://www.national.com/packaging/folders/vbc48a.html
footprint VBC48A_N (Thin QFP, 48-Leads, Body 7x7mm, Pitch 0.5mm, IPC Medium Density)
footprint VBC48A_L (Thin QFP, 48-Leads, Body 7x7mm, Pitch 0.5mm, IPC High Density)
footprint VBC48A_M (Thin QFP, 48-Leads, Body 7x7mm, Pitch 0.5mm, IPC Low Density)
pins: 1 NC, 2 PEM (in), 3 VDD (power), 4 VDD (power), 5 VDD (power), 6 NC, 7 VDD (power), 8 GND (power), 9 GND (power), 10 VDD (power), 11 VDD (power), 12 ~{PWDN} (in), 13 IN0+ (in), 14 IN0- (in), 15 IN1+ (in), 16 IN1- (in), 17 GND (power), 18 GND (power), 19 IN2+ (in), 20 IN2- (in), 21 IN3+ (in), 22 IN3- (in), 23 GND (power), 24 GND (power), 25 NC, 26 NC, 27 NC, 28 VDD (power), 29 VDD (power), 30 NC, 31 NC, 32 VDD (power), 33 VDD (power), 34 NC, 35 NC, 36 NC, 37 GND (power), 38 GND (power), 39 OUT3- (out), 40 OUT3+ (out), 41 OUT2- (out), 42 OUT2+ (out), 43 GND (power), 44 GND (power), 45 OUT1- (out), 46 OUT1+ (out), 47 OUT0- (out), 48 OUT0+ (out)

## DS15BR400TVS/NOPB
designator U?
Four-Channel LVDS Repeaters with Pre-Emphasis, 48-pin TQFP, Pb-Free; PartNumber: DS15BR400TVS/NOPB; Manufacturer: National Semiconductor; PackageTopMarking: NSUZXYTT*DS15BR*400TVS; PowerWise: N; CompType: Interface IC; High-Reliability: Y; DatasheetVersion: May-2007; PackageVersion: revA, Apr-2000; PackageReference: VBC48A; PackageDescription: TQFP, Jedec Metric, 7 x 7 x 1mm, 48 Lead, 0.5mm Pitch; RoHS: Y; PinCount: 48; Code_JEDEC: MS-026-ABC; ComponentLink1Description: Manufacturer URL; ComponentLink1URL: http://www.national.com/; ComponentLink2Description: DS15BR400 Datasheet; ComponentLink2URL: http://www.national.com/ds/DS/DS15BR400.pdf; ComponentLink3Description: DS15BR400 Web Page; ComponentLink3URL: http://www.national.com/pf/DS/DS15BR400.html; ComponentLink4Description: VBC48A Package Page; ComponentLink4URL: http://www.national.com/packaging/folders/vbc48a.html
footprint VBC48A_N (Thin QFP, 48-Leads, Body 7x7mm, Pitch 0.5mm, IPC Medium Density)
footprint VBC48A_L (Thin QFP, 48-Leads, Body 7x7mm, Pitch 0.5mm, IPC High Density)
footprint VBC48A_M (Thin QFP, 48-Leads, Body 7x7mm, Pitch 0.5mm, IPC Low Density)
pins: 1 NC, 2 PEM (in), 3 VDD (power), 4 VDD (power), 5 VDD (power), 6 NC, 7 VDD (power), 8 GND (power), 9 GND (power), 10 VDD (power), 11 VDD (power), 12 ~{PWDN} (in), 13 IN0+ (in), 14 IN0- (in), 15 IN1+ (in), 16 IN1- (in), 17 GND (power), 18 GND (power), 19 IN2+ (in), 20 IN2- (in), 21 IN3+ (in), 22 IN3- (in), 23 GND (power), 24 GND (power), 25 NC, 26 NC, 27 NC, 28 VDD (power), 29 VDD (power), 30 NC, 31 NC, 32 VDD (power), 33 VDD (power), 34 NC, 35 NC, 36 NC, 37 GND (power), 38 GND (power), 39 OUT3- (out), 40 OUT3+ (out), 41 OUT2- (out), 42 OUT2+ (out), 43 GND (power), 44 GND (power), 45 OUT1- (out), 46 OUT1+ (out), 47 OUT0- (out), 48 OUT0+ (out)

## DS15BR400TVSX
designator U?
Four-Channel LVDS Repeaters with Pre-Emphasis, 48-pin TQFP; PartNumber: DS15BR400TVSX; Manufacturer: National Semiconductor; PackageTopMarking: NSUZXYTT*DS15BR*400TVS; PowerWise: N; CompType: Interface IC; High-Reliability: Y; DatasheetVersion: May-2007; PackageVersion: revA, Apr-2000; PackageReference: VBC48A; PackageDescription: TQFP, Jedec Metric, 7 x 7 x 1mm, 48 Lead, 0.5mm Pitch; RoHS: N; PinCount: 48; Code_JEDEC: MS-026-ABC; ComponentLink1Description: Manufacturer URL; ComponentLink1URL: http://www.national.com/; ComponentLink2Description: DS15BR400 Datasheet; ComponentLink2URL: http://www.national.com/ds/DS/DS15BR400.pdf; ComponentLink3Description: DS15BR400 Web Page; ComponentLink3URL: http://www.national.com/pf/DS/DS15BR400.html; ComponentLink4Description: VBC48A Package Page; ComponentLink4URL: http://www.national.com/packaging/folders/vbc48a.html
footprint VBC48A_N (Thin QFP, 48-Leads, Body 7x7mm, Pitch 0.5mm, IPC Medium Density)
footprint VBC48A_L (Thin QFP, 48-Leads, Body 7x7mm, Pitch 0.5mm, IPC High Density)
footprint VBC48A_M (Thin QFP, 48-Leads, Body 7x7mm, Pitch 0.5mm, IPC Low Density)
pins: 1 NC, 2 PEM (in), 3 VDD (power), 4 VDD (power), 5 VDD (power), 6 NC, 7 VDD (power), 8 GND (power), 9 GND (power), 10 VDD (power), 11 VDD (power), 12 ~{PWDN} (in), 13 IN0+ (in), 14 IN0- (in), 15 IN1+ (in), 16 IN1- (in), 17 GND (power), 18 GND (power), 19 IN2+ (in), 20 IN2- (in), 21 IN3+ (in), 22 IN3- (in), 23 GND (power), 24 GND (power), 25 NC, 26 NC, 27 NC, 28 VDD (power), 29 VDD (power), 30 NC, 31 NC, 32 VDD (power), 33 VDD (power), 34 NC, 35 NC, 36 NC, 37 GND (power), 38 GND (power), 39 OUT3- (out), 40 OUT3+ (out), 41 OUT2- (out), 42 OUT2+ (out), 43 GND (power), 44 GND (power), 45 OUT1- (out), 46 OUT1+ (out), 47 OUT0- (out), 48 OUT0+ (out)

## DS15BR400TVSX/NOPB
designator U?
Four-Channel LVDS Repeaters with Pre-Emphasis, 48-pin TQFP, Pb-Free; PartNumber: DS15BR400TVSX/NOPB; Manufacturer: National Semiconductor; PackageTopMarking: NSUZXYTT*DS15BR*400TVS; PowerWise: N; CompType: Interface IC; High-Reliability: Y; DatasheetVersion: May-2007; PackageVersion: revA, Apr-2000; PackageReference: VBC48A; PackageDescription: TQFP, Jedec Metric, 7 x 7 x 1mm, 48 Lead, 0.5mm Pitch; RoHS: Y; PinCount: 48; Code_JEDEC: MS-026-ABC; ComponentLink1Description: Manufacturer URL; ComponentLink1URL: http://www.national.com/; ComponentLink2Description: DS15BR400 Datasheet; ComponentLink2URL: http://www.national.com/ds/DS/DS15BR400.pdf; ComponentLink3Description: DS15BR400 Web Page; ComponentLink3URL: http://www.national.com/pf/DS/DS15BR400.html; ComponentLink4Description: VBC48A Package Page; ComponentLink4URL: http://www.national.com/packaging/folders/vbc48a.html
footprint VBC48A_N (Thin QFP, 48-Leads, Body 7x7mm, Pitch 0.5mm, IPC Medium Density)
footprint VBC48A_L (Thin QFP, 48-Leads, Body 7x7mm, Pitch 0.5mm, IPC High Density)
footprint VBC48A_M (Thin QFP, 48-Leads, Body 7x7mm, Pitch 0.5mm, IPC Low Density)
pins: 1 NC, 2 PEM (in), 3 VDD (power), 4 VDD (power), 5 VDD (power), 6 NC, 7 VDD (power), 8 GND (power), 9 GND (power), 10 VDD (power), 11 VDD (power), 12 ~{PWDN} (in), 13 IN0+ (in), 14 IN0- (in), 15 IN1+ (in), 16 IN1- (in), 17 GND (power), 18 GND (power), 19 IN2+ (in), 20 IN2- (in), 21 IN3+ (in), 22 IN3- (in), 23 GND (power), 24 GND (power), 25 NC, 26 NC, 27 NC, 28 VDD (power), 29 VDD (power), 30 NC, 31 NC, 32 VDD (power), 33 VDD (power), 34 NC, 35 NC, 36 NC, 37 GND (power), 38 GND (power), 39 OUT3- (out), 40 OUT3+ (out), 41 OUT2- (out), 42 OUT2+ (out), 43 GND (power), 44 GND (power), 45 OUT1- (out), 46 OUT1+ (out), 47 OUT0- (out), 48 OUT0+ (out)

## DS15BR401TSQ
designator U?
Four-Channel LVDS Repeaters with Pre-Emphasis, 32-pin LLP; PartNumber: DS15BR401TSQ; Manufacturer: National Semiconductor; PackageTopMarking: NS*UZXYTT*5R401SQ; PowerWise: N; CompType: Interface IC; High-Reliability: Y; DatasheetVersion: May-2007; PackageVersion: revB, Oct-2009; PackageReference: SQA32A; PackageDescription: LLP, Quad, 5 x 5 x 0.8mm, 32 Lead, 0.5mm Pitch, No Pullback 3.1 x 3.1 Exposed Pad; RoHS: N; PinCount: 32; ComponentLink1Description: Manufacturer URL; ComponentLink1URL: http://www.national.com/; ComponentLink2Description: DS15BR401 Datasheet; ComponentLink2URL: http://www.national.com/ds/DS/DS15BR401.pdf; ComponentLink3Description: DS15BR401 Web Page; ComponentLink3URL: http://www.national.com/pf/DS/DS15BR401.html; ComponentLink4Description: SQA32A Package Page; ComponentLink4URL: http://www.national.com/packaging/folders/sqa32a.html
footprint SQA32A (QFN, 32-Leads, Body 5x5mm, Pitch 0.5mm, Thermal Pad 3.2x3.2mm, NSC Recommended)
pins: 1 NC, 2 PEM (in), 3 VDD (power), 4 VDD (power), 5 GND (power), 6 VDD (power), 7 VDD (power), 8 ~{PWDN} (in), 9 IN0+ (in), 10 IN0- (in), 11 IN1+ (in), 12 IN1- (in), 13 IN2+ (in), 14 IN2- (in), 15 IN3+ (in), 16 IN3- (in), 17 NC, 18 NC, 19 NC, 20 VDD (power), 21 VDD (power), 22 NC, 23 NC, 24 NC, 25 OUT3- (out), 26 OUT3+ (out), 27 OUT2- (out), 28 OUT2+ (out), 29 OUT1- (out), 30 OUT1+ (out), 31 OUT0- (out), 32 OUT0+ (out), 33 GND (power)

## DS15BR401TSQ/NOPB
designator U?
Four-Channel LVDS Repeaters with Pre-Emphasis, 32-pin LLP, Pb-Free; PartNumber: DS15BR401TSQ/NOPB; Manufacturer: National Semiconductor; PackageTopMarking: NS*UZXYTT*5R401SQ; PowerWise: N; CompType: Interface IC; High-Reliability: Y; DatasheetVersion: May-2007; PackageVersion: revB, Oct-2009; PackageReference: SQA32A; PackageDescription: LLP, Quad, 5 x 5 x 0.8mm, 32 Lead, 0.5mm Pitch, No Pullback 3.1 x 3.1 Exposed Pad; RoHS: Y; PinCount: 32; ComponentLink1Description: Manufacturer URL; ComponentLink1URL: http://www.national.com/; ComponentLink2Description: DS15BR401 Datasheet; ComponentLink2URL: http://www.national.com/ds/DS/DS15BR401.pdf; ComponentLink3Description: DS15BR401 Web Page; ComponentLink3URL: http://www.national.com/pf/DS/DS15BR401.html; ComponentLink4Description: SQA32A Package Page; ComponentLink4URL: http://www.national.com/packaging/folders/sqa32a.html
footprint SQA32A (QFN, 32-Leads, Body 5x5mm, Pitch 0.5mm, Thermal Pad 3.2x3.2mm, NSC Recommended)
pins: 1 NC, 2 PEM (in), 3 VDD (power), 4 VDD (power), 5 GND (power), 6 VDD (power), 7 VDD (power), 8 ~{PWDN} (in), 9 IN0+ (in), 10 IN0- (in), 11 IN1+ (in), 12 IN1- (in), 13 IN2+ (in), 14 IN2- (in), 15 IN3+ (in), 16 IN3- (in), 17 NC, 18 NC, 19 NC, 20 VDD (power), 21 VDD (power), 22 NC, 23 NC, 24 NC, 25 OUT3- (out), 26 OUT3+ (out), 27 OUT2- (out), 28 OUT2+ (out), 29 OUT1- (out), 30 OUT1+ (out), 31 OUT0- (out), 32 OUT0+ (out), 33 GND (power)

## DS15BR401TSQX
designator U?
Four-Channel LVDS Repeaters with Pre-Emphasis, 32-pin LLP; PartNumber: DS15BR401TSQX; Manufacturer: National Semiconductor; PackageTopMarking: NS*UZXYTT*5R401SQ; PowerWise: N; CompType: Interface IC; High-Reliability: Y; DatasheetVersion: May-2007; PackageVersion: revB, Oct-2009; PackageReference: SQA32A; PackageDescription: LLP, Quad, 5 x 5 x 0.8mm, 32 Lead, 0.5mm Pitch, No Pullback 3.1 x 3.1 Exposed Pad; RoHS: N; PinCount: 32; ComponentLink1Description: Manufacturer URL; ComponentLink1URL: http://www.national.com/; ComponentLink2Description: DS15BR401 Datasheet; ComponentLink2URL: http://www.national.com/ds/DS/DS15BR401.pdf; ComponentLink3Description: DS15BR401 Web Page; ComponentLink3URL: http://www.national.com/pf/DS/DS15BR401.html; ComponentLink4Description: SQA32A Package Page; ComponentLink4URL: http://www.national.com/packaging/folders/sqa32a.html
footprint SQA32A (QFN, 32-Leads, Body 5x5mm, Pitch 0.5mm, Thermal Pad 3.2x3.2mm, NSC Recommended)
pins: 1 NC, 2 PEM (in), 3 VDD (power), 4 VDD (power), 5 GND (power), 6 VDD (power), 7 VDD (power), 8 ~{PWDN} (in), 9 IN0+ (in), 10 IN0- (in), 11 IN1+ (in), 12 IN1- (in), 13 IN2+ (in), 14 IN2- (in), 15 IN3+ (in), 16 IN3- (in), 17 NC, 18 NC, 19 NC, 20 VDD (power), 21 VDD (power), 22 NC, 23 NC, 24 NC, 25 OUT3- (out), 26 OUT3+ (out), 27 OUT2- (out), 28 OUT2+ (out), 29 OUT1- (out), 30 OUT1+ (out), 31 OUT0- (out), 32 OUT0+ (out), 33 GND (power)

## DS15BR401TSQX/NOPB
designator U?
Four-Channel LVDS Repeaters with Pre-Emphasis, 32-pin LLP, Pb-Free; PartNumber: DS15BR401TSQX/NOPB; Manufacturer: National Semiconductor; PackageTopMarking: NS*UZXYTT*5R401SQ; PowerWise: N; CompType: Interface IC; High-Reliability: Y; DatasheetVersion: May-2007; PackageVersion: revB, Oct-2009; PackageReference: SQA32A; PackageDescription: LLP, Quad, 5 x 5 x 0.8mm, 32 Lead, 0.5mm Pitch, No Pullback 3.1 x 3.1 Exposed Pad; RoHS: Y; PinCount: 32; ComponentLink1Description: Manufacturer URL; ComponentLink1URL: http://www.national.com/; ComponentLink2Description: DS15BR401 Datasheet; ComponentLink2URL: http://www.national.com/ds/DS/DS15BR401.pdf; ComponentLink3Description: DS15BR401 Web Page; ComponentLink3URL: http://www.national.com/pf/DS/DS15BR401.html; ComponentLink4Description: SQA32A Package Page; ComponentLink4URL: http://www.national.com/packaging/folders/sqa32a.html
footprint SQA32A (QFN, 32-Leads, Body 5x5mm, Pitch 0.5mm, Thermal Pad 3.2x3.2mm, NSC Recommended)
pins: 1 NC, 2 PEM (in), 3 VDD (power), 4 VDD (power), 5 GND (power), 6 VDD (power), 7 VDD (power), 8 ~{PWDN} (in), 9 IN0+ (in), 10 IN0- (in), 11 IN1+ (in), 12 IN1- (in), 13 IN2+ (in), 14 IN2- (in), 15 IN3+ (in), 16 IN3- (in), 17 NC, 18 NC, 19 NC, 20 VDD (power), 21 VDD (power), 22 NC, 23 NC, 24 NC, 25 OUT3- (out), 26 OUT3+ (out), 27 OUT2- (out), 28 OUT2+ (out), 29 OUT1- (out), 30 OUT1+ (out), 31 OUT0- (out), 32 OUT0+ (out), 33 GND (power)

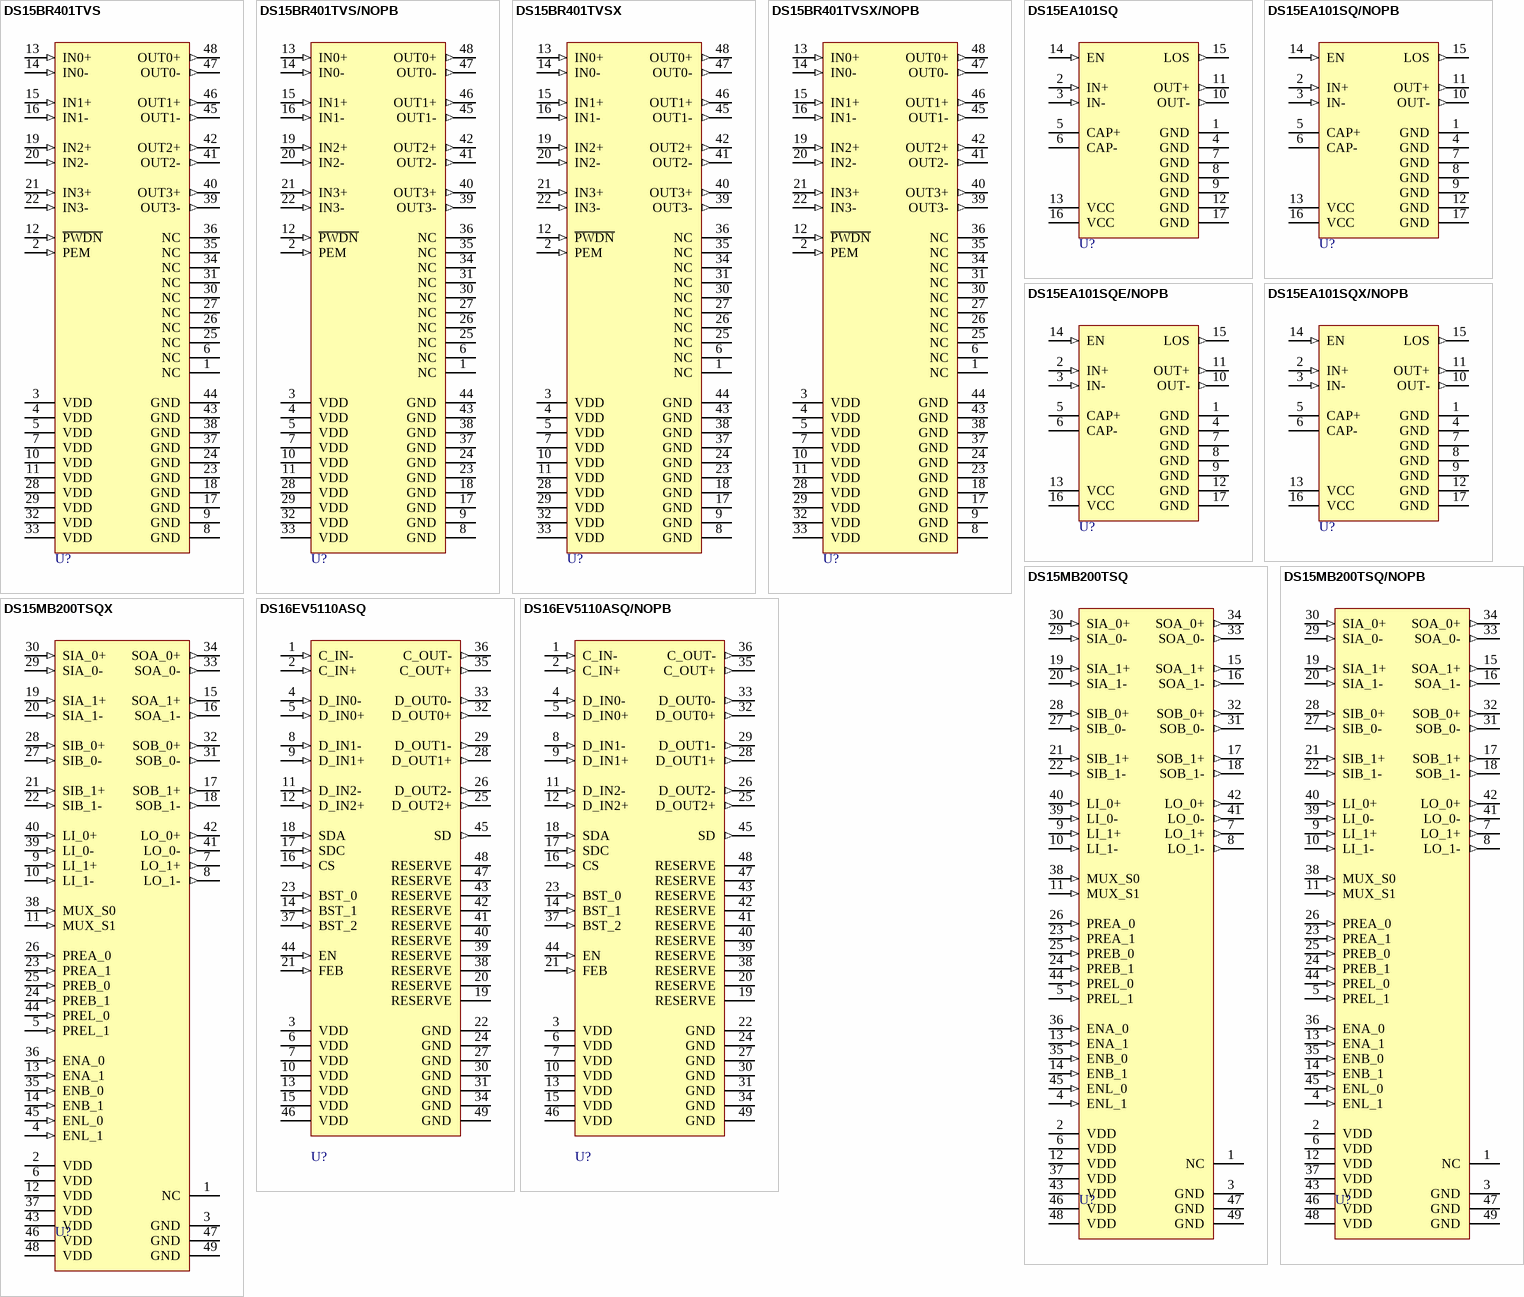
[diagram p17: symbols DS15BR401TVS to DS16EV5110ASQ/NOPB]

## DS15BR401TVS
designator U?
Four-Channel LVDS Repeaters with Pre-Emphasis, 48-pin TQFP; PartNumber: DS15BR401TVS; Manufacturer: National Semiconductor; PackageTopMarking: NSUZXYTT*DS15BR*401TVS; PowerWise: N; CompType: Interface IC; High-Reliability: Y; DatasheetVersion: May-2007; PackageVersion: revA, Apr-2000; PackageReference: VBC48A; PackageDescription: TQFP, Jedec Metric, 7 x 7 x 1mm, 48 Lead, 0.5mm Pitch; RoHS: N; PinCount: 48; Code_JEDEC: MS-026-ABC; ComponentLink1Description: Manufacturer URL; ComponentLink1URL: http://www.national.com/; ComponentLink2Description: DS15BR401 Datasheet; ComponentLink2URL: http://www.national.com/ds/DS/DS15BR401.pdf; ComponentLink3Description: DS15BR401 Web Page; ComponentLink3URL: http://www.national.com/pf/DS/DS15BR401.html; ComponentLink4Description: VBC48A Package Page; ComponentLink4URL: http://www.national.com/packaging/folders/vbc48a.html
footprint VBC48A_N (Thin QFP, 48-Leads, Body 7x7mm, Pitch 0.5mm, IPC Medium Density)
footprint VBC48A_L (Thin QFP, 48-Leads, Body 7x7mm, Pitch 0.5mm, IPC High Density)
footprint VBC48A_M (Thin QFP, 48-Leads, Body 7x7mm, Pitch 0.5mm, IPC Low Density)
pins: 1 NC, 2 PEM (in), 3 VDD (power), 4 VDD (power), 5 VDD (power), 6 NC, 7 VDD (power), 8 GND (power), 9 GND (power), 10 VDD (power), 11 VDD (power), 12 ~{PWDN} (in), 13 IN0+ (in), 14 IN0- (in), 15 IN1+ (in), 16 IN1- (in), 17 GND (power), 18 GND (power), 19 IN2+ (in), 20 IN2- (in), 21 IN3+ (in), 22 IN3- (in), 23 GND (power), 24 GND (power), 25 NC, 26 NC, 27 NC, 28 VDD (power), 29 VDD (power), 30 NC, 31 NC, 32 VDD (power), 33 VDD (power), 34 NC, 35 NC, 36 NC, 37 GND (power), 38 GND (power), 39 OUT3- (out), 40 OUT3+ (out), 41 OUT2- (out), 42 OUT2+ (out), 43 GND (power), 44 GND (power), 45 OUT1- (out), 46 OUT1+ (out), 47 OUT0- (out), 48 OUT0+ (out)

## DS15BR401TVS/NOPB
designator U?
Four-Channel LVDS Repeaters with Pre-Emphasis, 48-pin TQFP, Pb-Free; PartNumber: DS15BR401TVS/NOPB; Manufacturer: National Semiconductor; PackageTopMarking: NSUZXYTT*DS15BR*401TVS; PowerWise: N; CompType: Interface IC; High-Reliability: Y; DatasheetVersion: May-2007; PackageVersion: revA, Apr-2000; PackageReference: VBC48A; PackageDescription: TQFP, Jedec Metric, 7 x 7 x 1mm, 48 Lead, 0.5mm Pitch; RoHS: Y; PinCount: 48; Code_JEDEC: MS-026-ABC; ComponentLink1Description: Manufacturer URL; ComponentLink1URL: http://www.national.com/; ComponentLink2Description: DS15BR401 Datasheet; ComponentLink2URL: http://www.national.com/ds/DS/DS15BR401.pdf; ComponentLink3Description: DS15BR401 Web Page; ComponentLink3URL: http://www.national.com/pf/DS/DS15BR401.html; ComponentLink4Description: VBC48A Package Page; ComponentLink4URL: http://www.national.com/packaging/folders/vbc48a.html
footprint VBC48A_N (Thin QFP, 48-Leads, Body 7x7mm, Pitch 0.5mm, IPC Medium Density)
footprint VBC48A_L (Thin QFP, 48-Leads, Body 7x7mm, Pitch 0.5mm, IPC High Density)
footprint VBC48A_M (Thin QFP, 48-Leads, Body 7x7mm, Pitch 0.5mm, IPC Low Density)
pins: 1 NC, 2 PEM (in), 3 VDD (power), 4 VDD (power), 5 VDD (power), 6 NC, 7 VDD (power), 8 GND (power), 9 GND (power), 10 VDD (power), 11 VDD (power), 12 ~{PWDN} (in), 13 IN0+ (in), 14 IN0- (in), 15 IN1+ (in), 16 IN1- (in), 17 GND (power), 18 GND (power), 19 IN2+ (in), 20 IN2- (in), 21 IN3+ (in), 22 IN3- (in), 23 GND (power), 24 GND (power), 25 NC, 26 NC, 27 NC, 28 VDD (power), 29 VDD (power), 30 NC, 31 NC, 32 VDD (power), 33 VDD (power), 34 NC, 35 NC, 36 NC, 37 GND (power), 38 GND (power), 39 OUT3- (out), 40 OUT3+ (out), 41 OUT2- (out), 42 OUT2+ (out), 43 GND (power), 44 GND (power), 45 OUT1- (out), 46 OUT1+ (out), 47 OUT0- (out), 48 OUT0+ (out)

## DS15BR401TVSX
designator U?
Four-Channel LVDS Repeaters with Pre-Emphasis, 48-pin TQFP; PartNumber: DS15BR401TVSX; Manufacturer: National Semiconductor; PackageTopMarking: NSUZXYTT*DS15BR*401TVS; PowerWise: N; CompType: Interface IC; High-Reliability: Y; DatasheetVersion: May-2007; PackageVersion: revA, Apr-2000; PackageReference: VBC48A; PackageDescription: TQFP, Jedec Metric, 7 x 7 x 1mm, 48 Lead, 0.5mm Pitch; RoHS: N; PinCount: 48; Code_JEDEC: MS-026-ABC; ComponentLink1Description: Manufacturer URL; ComponentLink1URL: http://www.national.com/; ComponentLink2Description: DS15BR401 Datasheet; ComponentLink2URL: http://www.national.com/ds/DS/DS15BR401.pdf; ComponentLink3Description: DS15BR401 Web Page; ComponentLink3URL: http://www.national.com/pf/DS/DS15BR401.html; ComponentLink4Description: VBC48A Package Page; ComponentLink4URL: http://www.national.com/packaging/folders/vbc48a.html
footprint VBC48A_N (Thin QFP, 48-Leads, Body 7x7mm, Pitch 0.5mm, IPC Medium Density)
footprint VBC48A_L (Thin QFP, 48-Leads, Body 7x7mm, Pitch 0.5mm, IPC High Density)
footprint VBC48A_M (Thin QFP, 48-Leads, Body 7x7mm, Pitch 0.5mm, IPC Low Density)
pins: 1 NC, 2 PEM (in), 3 VDD (power), 4 VDD (power), 5 VDD (power), 6 NC, 7 VDD (power), 8 GND (power), 9 GND (power), 10 VDD (power), 11 VDD (power), 12 ~{PWDN} (in), 13 IN0+ (in), 14 IN0- (in), 15 IN1+ (in), 16 IN1- (in), 17 GND (power), 18 GND (power), 19 IN2+ (in), 20 IN2- (in), 21 IN3+ (in), 22 IN3- (in), 23 GND (power), 24 GND (power), 25 NC, 26 NC, 27 NC, 28 VDD (power), 29 VDD (power), 30 NC, 31 NC, 32 VDD (power), 33 VDD (power), 34 NC, 35 NC, 36 NC, 37 GND (power), 38 GND (power), 39 OUT3- (out), 40 OUT3+ (out), 41 OUT2- (out), 42 OUT2+ (out), 43 GND (power), 44 GND (power), 45 OUT1- (out), 46 OUT1+ (out), 47 OUT0- (out), 48 OUT0+ (out)

## DS15BR401TVSX/NOPB
designator U?
Four-Channel LVDS Repeaters with Pre-Emphasis, 48-pin TQFP, Pb-Free; PartNumber: DS15BR401TVSX/NOPB; Manufacturer: National Semiconductor; PackageTopMarking: NSUZXYTT*DS15BR*401TVS; PowerWise: N; CompType: Interface IC; High-Reliability: Y; DatasheetVersion: May-2007; PackageVersion: revA, Apr-2000; PackageReference: VBC48A; PackageDescription: TQFP, Jedec Metric, 7 x 7 x 1mm, 48 Lead, 0.5mm Pitch; RoHS: Y; PinCount: 48; Code_JEDEC: MS-026-ABC; ComponentLink1Description: Manufacturer URL; ComponentLink1URL: http://www.national.com/; ComponentLink2Description: DS15BR401 Datasheet; ComponentLink2URL: http://www.national.com/ds/DS/DS15BR401.pdf; ComponentLink3Description: DS15BR401 Web Page; ComponentLink3URL: http://www.national.com/pf/DS/DS15BR401.html; ComponentLink4Description: VBC48A Package Page; ComponentLink4URL: http://www.national.com/packaging/folders/vbc48a.html
footprint VBC48A_N (Thin QFP, 48-Leads, Body 7x7mm, Pitch 0.5mm, IPC Medium Density)
footprint VBC48A_L (Thin QFP, 48-Leads, Body 7x7mm, Pitch 0.5mm, IPC High Density)
footprint VBC48A_M (Thin QFP, 48-Leads, Body 7x7mm, Pitch 0.5mm, IPC Low Density)
pins: 1 NC, 2 PEM (in), 3 VDD (power), 4 VDD (power), 5 VDD (power), 6 NC, 7 VDD (power), 8 GND (power), 9 GND (power), 10 VDD (power), 11 VDD (power), 12 ~{PWDN} (in), 13 IN0+ (in), 14 IN0- (in), 15 IN1+ (in), 16 IN1- (in), 17 GND (power), 18 GND (power), 19 IN2+ (in), 20 IN2- (in), 21 IN3+ (in), 22 IN3- (in), 23 GND (power), 24 GND (power), 25 NC, 26 NC, 27 NC, 28 VDD (power), 29 VDD (power), 30 NC, 31 NC, 32 VDD (power), 33 VDD (power), 34 NC, 35 NC, 36 NC, 37 GND (power), 38 GND (power), 39 OUT3- (out), 40 OUT3+ (out), 41 OUT2- (out), 42 OUT2+ (out), 43 GND (power), 44 GND (power), 45 OUT1- (out), 46 OUT1+ (out), 47 OUT0- (out), 48 OUT0+ (out)

## DS15EA101SQ
designator U?
0.15 to 1.5 Gbps Adaptive Cable Equalizer with LOS Detection, 16-pin LLP; PartNumber: DS15EA101SQ; Manufacturer: National Semiconductor; PackageTopMarking: NS*UZXYTT*15EA101; PowerWise: N; CompType: Interface IC; High-Reliability: Y; DatasheetVersion: Jan-2009; PackageVersion: revA, Oct-2003; PackageReference: SQA16A; PackageDescription: LLP, Plastic, Quad, 4 x 4 x 0.8mm Body, 16 Lead, 0.5mm Pitch, No Pullback; RoHS: Y; PinCount: 16; ComponentLink1Description: Manufacturer URL; ComponentLink1URL: http://www.national.com/; ComponentLink2Description: DS15EA101 Datasheet; ComponentLink2URL: http://www.national.com/ds/DS/DS15EA101.pdf; ComponentLink3Description: DS15EA101 Web Page; ComponentLink3URL: http://www.national.com/pf/DS/DS15EA101.html; ComponentLink4Description: SQA16A Package Page; ComponentLink4URL: http://www.national.com/packaging/folders/sqa16a.html
footprint SQA16A (QFN, 16-Leads, Body 4x4mm, Pitch 0.5mm, Thermal Pad 2.7x2.7mm, NSC Recommended)
pins: 1 GND (power), 2 IN+ (in), 3 IN- (in), 4 GND (power), 5 CAP+, 6 CAP-, 7 GND (power), 8 GND (power), 9 GND (power), 10 OUT- (out), 11 OUT+ (out), 12 GND (power), 13 VCC (power), 14 EN (in), 15 LOS (out), 16 VCC (power), 17 GND (power)

## DS15EA101SQ/NOPB
designator U?
0.15 to 1.5 Gbps Adaptive Cable Equalizer with LOS Detection, 16-pin LLP, Pb-Free; PartNumber: DS15EA101SQ/NOPB; Manufacturer: National Semiconductor; PackageTopMarking: NS*UZXYTT*15EA101; PowerWise: N; CompType: Interface IC; High-Reliability: Y; DatasheetVersion: Jan-2009; PackageVersion: revA, Oct-2003; PackageReference: SQA16A; PackageDescription: LLP, Plastic, Quad, 4 x 4 x 0.8mm Body, 16 Lead, 0.5mm Pitch, No Pullback; RoHS: Y; PinCount: 16; ComponentLink1Description: Manufacturer URL; ComponentLink1URL: http://www.national.com/; ComponentLink2Description: DS15EA101 Datasheet; ComponentLink2URL: http://www.national.com/ds/DS/DS15EA101.pdf; ComponentLink3Description: DS15EA101 Web Page; ComponentLink3URL: http://www.national.com/pf/DS/DS15EA101.html; ComponentLink4Description: SQA16A Package Page; ComponentLink4URL: http://www.national.com/packaging/folders/sqa16a.html
footprint SQA16A (QFN, 16-Leads, Body 4x4mm, Pitch 0.5mm, Thermal Pad 2.7x2.7mm, NSC Recommended)
pins: 1 GND (power), 2 IN+ (in), 3 IN- (in), 4 GND (power), 5 CAP+, 6 CAP-, 7 GND (power), 8 GND (power), 9 GND (power), 10 OUT- (out), 11 OUT+ (out), 12 GND (power), 13 VCC (power), 14 EN (in), 15 LOS (out), 16 VCC (power), 17 GND (power)